# EAGLE library part TPS630701 (library TPS630701 - Buck Boost 5V regulator)
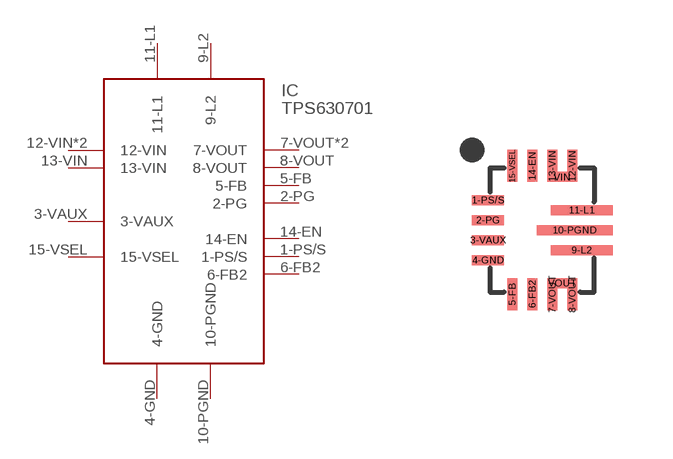
[diagram p0: symbol with the pads of VQFN; footprint VQFN]

Designator prefix IC

## TPS630701  [VQFN]
1-PS/S  1-PS/S
2-PG  2-PG
3-VAUX  3-VAUX
4-GND  4-GND
5-FB  5-FB
6-FB2  6-FB2
7-VOUT  7-VOUT
8-VOUT  8-VOUT
9-L2  9-L2
10-PGND  10-PGND
11-L1  11-L1
12-VIN  12-VIN
13-VIN  13-VIN
14-EN  14-EN
15-VSEL  15-VSEL
VIN  12-VIN
VOUT  7-VOUT

## Footprint VQFN (pad centres in mm)
smd 0.8 x 0.25: 1-PS/S -1.35,0.75; 2-PG -1.35,0.25; 3-VAUX -1.35,-0.25; 4-GND -1.35,-0.75
smd 0.25 x 0.8: 5-FB -0.75,-1.6; 6-FB2 -0.25,-1.6; 7-VOUT 0.25,-1.6; 8-VOUT 0.75,-1.6; 12-VIN 0.75,1.6; 13-VIN 0.25,1.6; 14-EN -0.25,1.6; 15-VSEL -0.75,1.6
smd 1.55 x 0.25: 9-L2 0.99,-0.5; 11-L1 0.99,0.5
smd 1.9 x 0.25: 10-PGND 0.815,0
smd 0.6 x 0.25: VIN 0.5,1.325; VOUT 0.505,-1.325